# Altium footprint library CUI_UJ20-C-H-G-SMT-TR.PcbLib: 1 footprints
Each footprint in its own frame and in the unit in brackets; x right, y up, seen from the top. Pads: shape width x height; smd on the part's side, far side on the other; paste and mask are expansions set on the pad; w line width, h text height; cw(c..) or ccw(c..) is an arc to the next point about the centre after c.
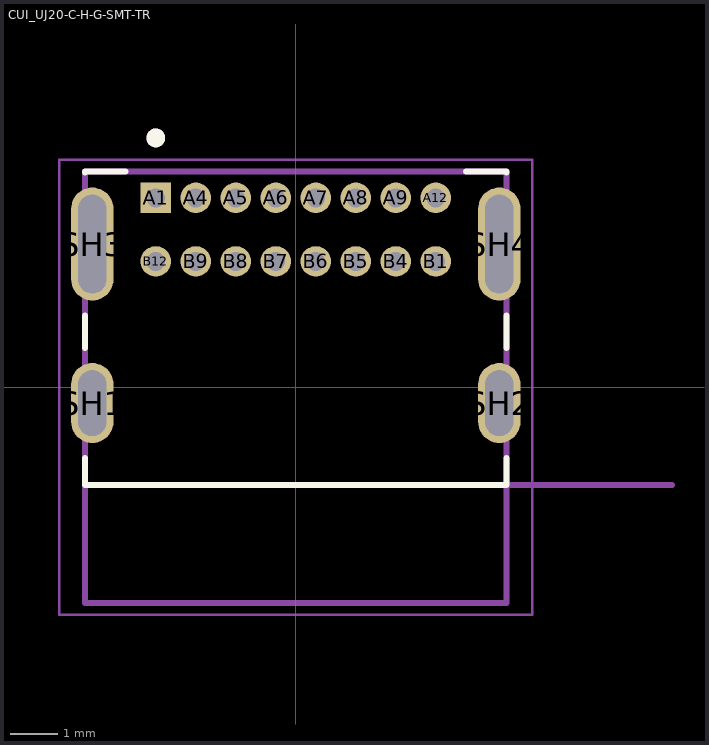
[diagram p0: the footprint, top view; thin cyan lines are the x and y axes]

## CUI_UJ20-C-H-G-SMT-TR [mm]
height 3.66
pads (20):
  rect 0.65x0.65 / inner round 0.65 / far side rect 0.65x0.65 hole 0.4: A1(-2.975,4.025)
  round 0.65 hole 0.4: A4(-2.125,4.025) A5(-1.275,4.025) A6(-0.425,4.025) A7(0.425,4.025) A8(1.275,4.025) A9(2.125,4.025) A12(2.975,4.025) B1(2.975,2.675) B4(2.125,2.675) B5(1.275,2.675) B6(0.425,2.675) B7(-0.425,2.675) B8(-1.275,2.675) B9(-2.125,2.675) B12(-2.975,2.675)
  oval 0.9x1.7 hole 0.6 slot 1.4 at 90 deg: SH1(-4.325,-0.335) SH2(4.325,-0.335)
  oval 0.9x2.4 hole 0.6 slot 2.1 at 90 deg: SH3(-4.325,3.045) SH4(4.325,3.045)
Top Overlay:
  circle w0.2: c-2.975,5.3 r0.1
  lines w0.127: -4.475,-1.505 -4.475,-2.075 4.475,-2.075 4.475,-1.505 ; -4.475,0.835 -4.475,1.525 ; -4.475,4.565 -4.475,4.585 -3.62,4.585 ; 3.62,4.585 4.475,4.585 4.475,4.565 ; 4.475,0.835 4.475,1.525
Mechanical 13:
  circle w0.2: c-2.975,5.3 r0.1
  lines w0.127: 8,-2.075 -4.475,-2.075 ; -4.475,-2.075 -4.475,-4.585 4.475,-4.585 4.475,4.585 -4.475,4.585 -4.475,-2.075
  text "PCB EDGE" at 5.5,-1.9 h0.81
Mechanical 15:
  lines w0.05: -5.025,-4.835 -5.025,4.835 5.025,4.835 5.025,-4.835 -5.025,-4.835